# Altium schematic symbol library ASDLJ-E-45.1584MHz-L-R-T.SchLib: 1 symbol
Pins are listed as number, name and electrical type; pins without a type are passive.

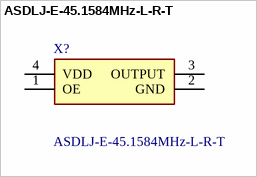
[diagram p0: symbol ASDLJ-E-45.1584MHz-L-R-T]

## ASDLJ-E-45.1584MHz-L-R-T
designator X?
45.1584 MHz XO (Standard) CMOS Oscillator 3.3V Enable/Disable 4-SMD, No Lead; Manufacturer_Name: ABRACON; Geometry.Height: 1mm; Manufacturer_Part_Number: ASDLJ-E-45.1584MHz-L-R-T; Mouser Part Number: 815-ASDLJE451584MLRT; Mouser Price/Stock: https://www.mouser.co.uk/ProductDetail/ABRACON/ASDLJ-E-45.1584MHz-L-R-T?qs=wT7LY0lnAe3sHOZDDuH%252Bxw%3D%3D; Arrow Part Number: *; Arrow Price/Stock: *; Datasheet Link: https://www.digikey.ph/en/products/detail/abracon-llc/ASDLJ-E-45-1584MHZ-L-R-T/24387249
footprint ASDLJE451584MHzLRT
pins: 1 OE, 2 GND, 3 OUTPUT, 4 VDD